# Altium footprint library SOP254P.PcbLib: 1 footprints
Each footprint in its own frame and in the unit in brackets; x right, y up, seen from the top. Pads: shape width x height; smd on the part's side, far side on the other; paste and mask are expansions set on the pad; w line width, h text height; cw(c..) or ccw(c..) is an arc to the next point about the centre after c.
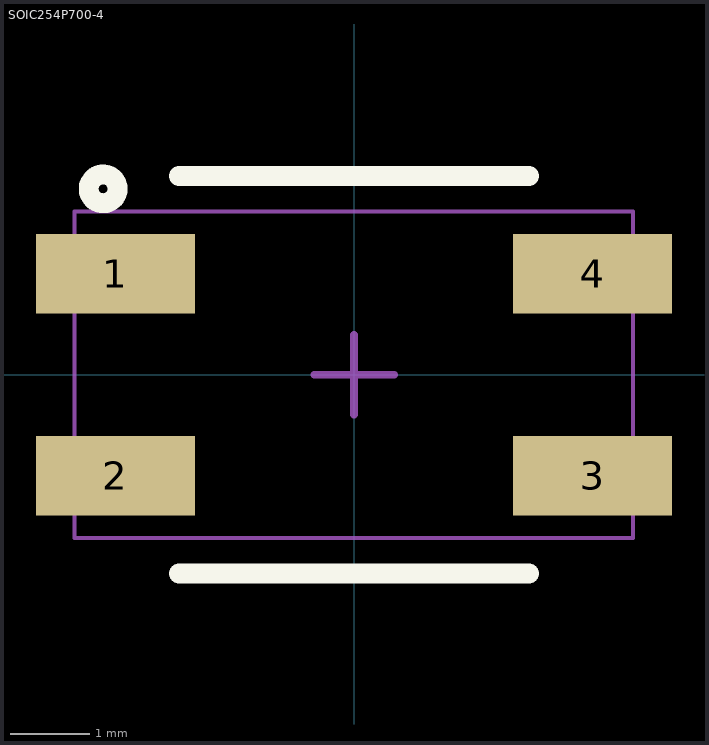
[diagram p0: the footprint, top view; thin cyan lines are the x and y axes]

## SOIC254P700-4 [mm] "SOIC, 4-Leads, Body 4.4 x 4.1mm, Pitch 2.54mm."
height 2
pads (4):
  rect 2x1 smd: 1(-3,1.27) 2(-3,-1.27) 3(3,-1.27) 4(3,1.27)
Top Overlay:
  circle w0.25: c-3.153,2.337 r0.182
  lines w0.254: -2.2,-2.5 2.2,-2.5 ; -2.2,2.5 2.2,2.5
Mechanical 13:
  lines w0.05: -3.516,-2.05 -3.516,2.05 3.505,2.05 3.505,-2.05 -3.516,-2.05
Mechanical 15:
  lines w0.1: -0.5,0 0.5,0 ; 0,-0.5 0,0.5
3D body: height 2.1, standoff 0, extent -3.516,-2.05 3.505,2.05